# EAGLE library part TJA1052IT (library serial_interfaces)
CAN Digital Isolator 5000Vrms 1 Channel 5Mbps 20kV/µs CMTI 16-SOIC (0.295", 7.50mm Width)
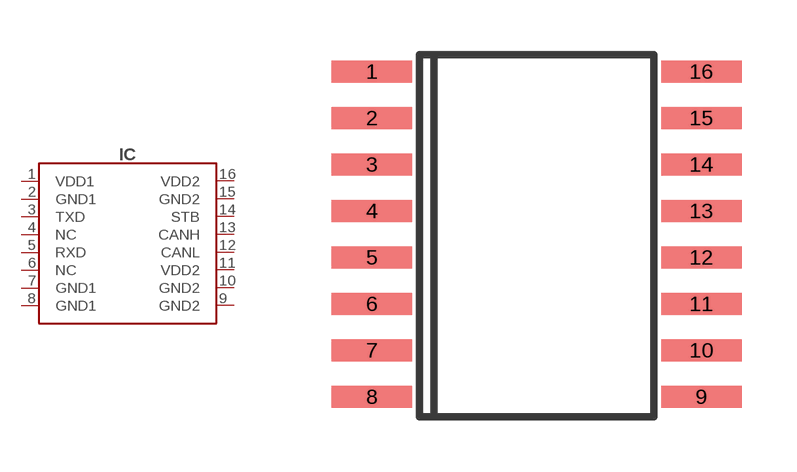
[diagram p18: symbol with the pads of SO-16W; footprint SO-16W]

Designator prefix IC

## TJA1052IT (DIGIKEY#: 568-11942-1-ND; MANF: NXP USA Inc; MANF#: TJA1052IT/5Y)  [SO-16W]
1  VDD1
2  GND1
3  TXD
4  NC
5  RXD
6  NC
7  GND1
8  GND1
9  GND2
10  GND2
11  VDD2
12  CANL
13  CANH
14  STB
15  GND2
16  VDD2

## Footprint SO-16W (pad centres in mm)
Small Outline Narrow Plastic Gull Wing 150-mil body, package type SL
smd 2.2 x 0.6: 1 -4.5,4.445; 2 -4.5,3.175; 3 -4.5,1.905; 4 -4.5,0.635; 5 -4.5,-0.635; 6 -4.5,-1.905; 7 -4.5,-3.175; 8 -4.5,-4.445; 9 4.5,-4.445; 10 4.5,-3.175; 11 4.5,-1.905; 12 4.5,-0.635; 13 4.5,0.635; 14 4.5,1.905; 15 4.5,3.175; 16 4.5,4.445